# EAGLE library part 1264486270 (library con-bosch)
BOSCH - Steckerleiste fahrzeugorientiert - 154 pol. Source: DRW_1264486270_000_03_1.pdf
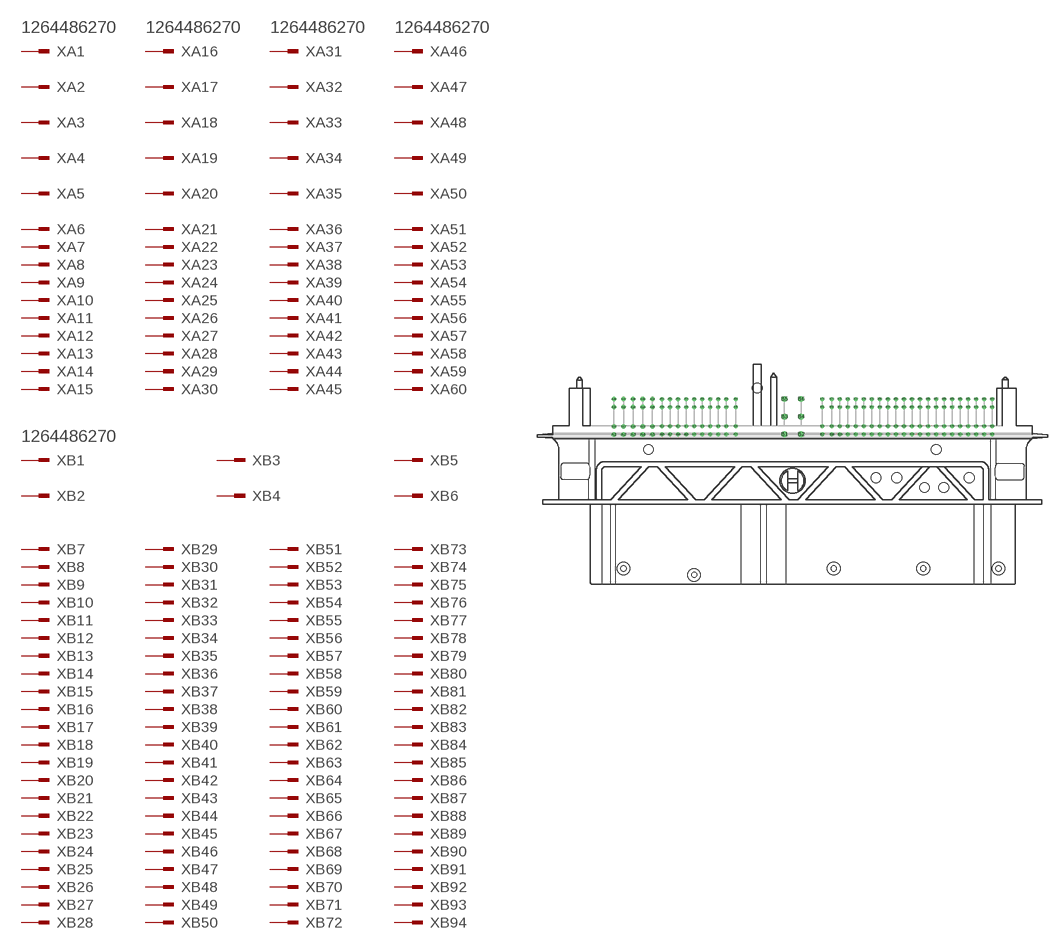
[diagram p0: symbol with the pads of 1264486270; footprint 1264486270]

Designator prefix X; gates A1=PIN-V A2=PIN A3=PIN A4=PIN A5=PIN A6=PIN A7=PIN A8=PIN A9=PIN A10=PIN A11=PIN A12=PIN A13=PIN A14=PIN A15=PIN A16=PIN-V A17=PIN A18=PIN A19=PIN A20=PIN A21=PIN A22=PIN A23=PIN A24=PIN A25=PIN A26=PIN A27=PIN A28=PIN A29=PIN A30=PIN A31=PIN-V A32=PIN A33=PIN A34=PIN A35=PIN A36=PIN A37=PIN A38=PIN A39=PIN A40=PIN A41=PIN A42=PIN A43=PIN A44=PIN A45=PIN A46=PIN-V A47=PIN A48=PIN A49=PIN A50=PIN A51=PIN A52=PIN A53=PIN A54=PIN A55=PIN A56=PIN A57=PIN A58=PIN A59=PIN A60=PIN B1=PIN-V B2=PIN B3=PIN B4=PIN B5=PIN B6=PIN B7=PIN B8=PIN B9=PIN B10=PIN B11=PIN B12=PIN B13=PIN B14=PIN B15=PIN B16=PIN B17=PIN B18=PIN B19=PIN B20=PIN B21=PIN B22=PIN B23=PIN B24=PIN B25=PIN B26=PIN B27=PIN B28=PIN B29=PIN B30=PIN B31=PIN B32=PIN B33=PIN B34=PIN B35=PIN B36=PIN B37=PIN B38=PIN B39=PIN B40=PIN B41=PIN B42=PIN B43=PIN B44=PIN B45=PIN B46=PIN B47=PIN B48=PIN B49=PIN B50=PIN B51=PIN B52=PIN B53=PIN B54=PIN B55=PIN B56=PIN B57=PIN B58=PIN B59=PIN B60=PIN B61=PIN B62=PIN B63=PIN B64=PIN B65=PIN B66=PIN B67=PIN B68=PIN B69=PIN B70=PIN B71=PIN B72=PIN B73=PIN B74=PIN B75=PIN B76=PIN B77=PIN B78=PIN B79=PIN B80=PIN B81=PIN B82=PIN B83=PIN B84=PIN B85=PIN B86=PIN B87=PIN B88=PIN B89=PIN B90=PIN B91=PIN B92=PIN B93=PIN B94=PIN

## 1264486270 (OC_FARNELL: unknown; OC_NEWARK: unknown)  [1264486270]
A1  A1:1  pas
A2  A2:1  pas
A3  A3:1  pas
A4  A4:1  pas
A5  A5:1  pas
A6  A6:1  pas
A7  A7:1  pas
A8  A8:1  pas
A9  A9:1  pas
A10  A10:1  pas
A11  A11:1  pas
A12  A12:1  pas
A13  A13:1  pas
A14  A14:1  pas
A15  A15:1  pas
A16  A16:1  pas
A17  A17:1  pas
A18  A18:1  pas
A19  A19:1  pas
A20  A20:1  pas
A21  A21:1  pas
A22  A22:1  pas
A23  A23:1  pas
A24  A24:1  pas
A25  A25:1  pas
A26  A26:1  pas
A27  A27:1  pas
A28  A28:1  pas
A29  A29:1  pas
A30  A30:1  pas
A31  A31:1  pas
A32  A32:1  pas
A33  A33:1  pas
A34  A34:1  pas
A35  A35:1  pas
A36  A36:1  pas
A37  A37:1  pas
A38  A38:1  pas
A39  A39:1  pas
A40  A40:1  pas
A41  A41:1  pas
A42  A42:1  pas
A43  A43:1  pas
A44  A44:1  pas
A45  A45:1  pas
A46  A46:1  pas
A47  A47:1  pas
A48  A48:1  pas
A49  A49:1  pas
A50  A50:1  pas
A51  A51:1  pas
A52  A52:1  pas
A53  A53:1  pas
A54  A54:1  pas
A55  A55:1  pas
A56  A56:1  pas
A57  A57:1  pas
A58  A58:1  pas
A59  A59:1  pas
A60  A60:1  pas
B1  B1:1  pas
B2  B2:1  pas
B3  B3:1  pas
B4  B4:1  pas
B5  B5:1  pas
B6  B6:1  pas
B7  B7:1  pas
B8  B8:1  pas
B9  B9:1  pas
B10  B10:1  pas
B11  B11:1  pas
B12  B12:1  pas
B13  B13:1  pas
B14  B14:1  pas
B15  B15:1  pas
B16  B16:1  pas
B17  B17:1  pas
B18  B18:1  pas
B19  B19:1  pas
B20  B20:1  pas
B21  B21:1  pas
B22  B22:1  pas
B23  B23:1  pas
B24  B24:1  pas
B25  B25:1  pas
B26  B26:1  pas
B27  B27:1  pas
B28  B28:1  pas
B29  B29:1  pas
B30  B30:1  pas
B31  B31:1  pas
B32  B32:1  pas
B33  B33:1  pas
B34  B34:1  pas
B35  B35:1  pas
B36  B36:1  pas
B37  B37:1  pas
B38  B38:1  pas
B39  B39:1  pas
B40  B40:1  pas
B41  B41:1  pas
B42  B42:1  pas
B43  B43:1  pas
B44  B44:1  pas
B45  B45:1  pas
B46  B46:1  pas
B47  B47:1  pas
B48  B48:1  pas
B49  B49:1  pas
B50  B50:1  pas
B51  B51:1  pas
B52  B52:1  pas
B53  B53:1  pas
B54  B54:1  pas
B55  B55:1  pas
B56  B56:1  pas
B57  B57:1  pas
B58  B58:1  pas
B59  B59:1  pas
B60  B60:1  pas
B61  B61:1  pas
B62  B62:1  pas
B63  B63:1  pas
B64  B64:1  pas
B65  B65:1  pas
B66  B66:1  pas
B67  B67:1  pas
B68  B68:1  pas
B69  B69:1  pas
B70  B70:1  pas
B71  B71:1  pas
B72  B72:1  pas
B73  B73:1  pas
B74  B74:1  pas
B75  B75:1  pas
B76  B76:1  pas
B77  B77:1  pas
B78  B78:1  pas
B79  B79:1  pas
B80  B80:1  pas
B81  B81:1  pas
B82  B82:1  pas
B83  B83:1  pas
B84  B84:1  pas
B85  B85:1  pas
B86  B86:1  pas
B87  B87:1  pas
B88  B88:1  pas
B89  B89:1  pas
B90  B90:1  pas
B91  B91:1  pas
B92  B92:1  pas
B93  B93:1  pas
B94  B94:1  pas

## Footprint 1264486270 (pad centres in mm)
BOSCH - Steckerleiste fahrzeugorientiert - 154 pol. Source: DRW_1264486270_000_03_1.pdf
drill 0.8 pad 1.422: A1 -55.747,5.45; A2 -52.747,5.45; A3 -49.747,5.45; A4 -46.747,5.45; A5 -43.747,5.45; A16 -55.747,7.95; A17 -52.747,7.95; A18 -49.747,7.95; A19 -46.747,7.95; A20 -43.747,7.95; A31 -55.747,13.95; A32 -52.747,13.95; A33 -49.747,13.95; A34 -46.747,13.95; A35 -43.747,13.95; A46 -55.747,16.45; A47 -52.747,16.45; A48 -49.747,16.45; A49 -46.747,16.45; A50 -43.747,16.45
drill 0.7 pad 1.27: A6 -40.747,5.45; A7 -38.247,5.45; A8 -35.747,5.45; A9 -33.247,5.45; A10 -30.747,5.45; A11 -28.247,5.45; A12 -25.747,5.45; A13 -23.247,5.45; A14 -20.747,5.45; A15 -17.747,5.45; A21 -40.747,7.95; A22 -38.247,7.95; A23 -35.747,7.95; A24 -33.247,7.95; A25 -30.747,7.95; A26 -28.247,7.95; A27 -25.747,7.95; A28 -23.247,7.95; A29 -20.747,7.95; A30 -17.747,7.95; A36 -40.747,13.95; A37 -38.247,13.95; A38 -35.747,13.95; A39 -33.247,13.95; A40 -30.747,13.95; A41 -28.247,13.95; A42 -25.747,13.95; A43 -23.247,13.95; A44 -20.747,13.95; A45 -17.747,13.95; A51 -40.747,16.45; A52 -38.247,16.45; A53 -35.747,16.45; A54 -33.247,16.45; A55 -30.747,16.45; A56 -28.247,16.45; A57 -25.747,16.45; A58 -23.247,16.45; A59 -20.747,16.45; A60 -17.747,16.45; B7 9.253,5.45; B8 12.253,5.45; B9 14.753,5.45; B10 17.253,5.45; B11 19.753,5.45; B12 22.253,5.45; B13 24.753,5.45; B14 27.253,5.45; B15 29.753,5.45; B16 32.253,5.45; B17 34.753,5.45; B18 37.253,5.45; B19 39.753,5.45; B20 42.253,5.45; B21 44.753,5.45; B22 47.253,5.45; B23 49.753,5.45; B24 52.253,5.45; B25 54.753,5.45; B26 57.253,5.45; B27 59.753,5.45; B28 62.253,5.45; B29 9.253,7.95; B30 12.253,7.95; B31 14.753,7.95; B32 17.253,7.95; B33 19.753,7.95; B34 22.253,7.95; B35 24.753,7.95; B36 27.253,7.95; B37 29.753,7.95; B38 32.253,7.95; B39 34.753,7.95; B40 37.253,7.95; B41 39.753,7.95; B42 42.253,7.95; B43 44.753,7.95; B44 47.253,7.95; B45 49.753,7.95; B46 52.253,7.95; B47 54.753,7.95; B48 57.253,7.95; B49 59.753,7.95; B50 62.253,7.95; B51 9.253,13.95; B52 12.253,13.95; B53 14.753,13.95; B54 17.253,13.95; B55 19.753,13.95; B56 22.253,13.95; B57 24.753,13.95; B58 27.253,13.95; B59 29.753,13.95; B60 32.253,13.95; B61 34.753,13.95; B62 37.253,13.95; B63 39.753,13.95; B64 42.253,13.95; B65 44.753,13.95; B66 47.253,13.95; B67 49.753,13.95; B68 52.253,13.95; B69 54.753,13.95; B70 57.253,13.95; B71 59.753,13.95; B72 62.253,13.95; B73 9.253,16.45; B74 12.253,16.45; B75 14.753,16.45; B76 17.253,16.45; B77 19.753,16.45; B78 22.253,16.45; B79 24.753,16.45; B80 27.253,16.45; B81 29.753,16.45; B82 32.253,16.45; B83 34.753,16.45; B84 37.253,16.45; B85 39.753,16.45; B86 42.253,16.45; B87 44.753,16.45; B88 47.253,16.45; B89 49.753,16.45; B90 52.253,16.45; B91 54.753,16.45; B92 57.253,16.45; B93 59.753,16.45; B94 62.253,16.45
drill 0.8 pad 1.778: B1 -2.547,5.45; B2 2.653,5.45; B3 -2.547,10.95; B4 2.653,10.95; B5 -2.547,16.45; B6 2.653,16.45
hole 3 at -44.991,0.767
hole 3 at 44.826,0.767
hole 3 at -11.015,19.892